# Altium footprint library XDCR_BMP390L.PcbLib: 1 footprints
Each footprint in its own frame and in the unit in brackets; x right, y up, seen from the top. Pads: shape width x height; smd on the part's side, far side on the other; paste and mask are expansions set on the pad; w line width, h text height; cw(c..) or ccw(c..) is an arc to the next point about the centre after c.
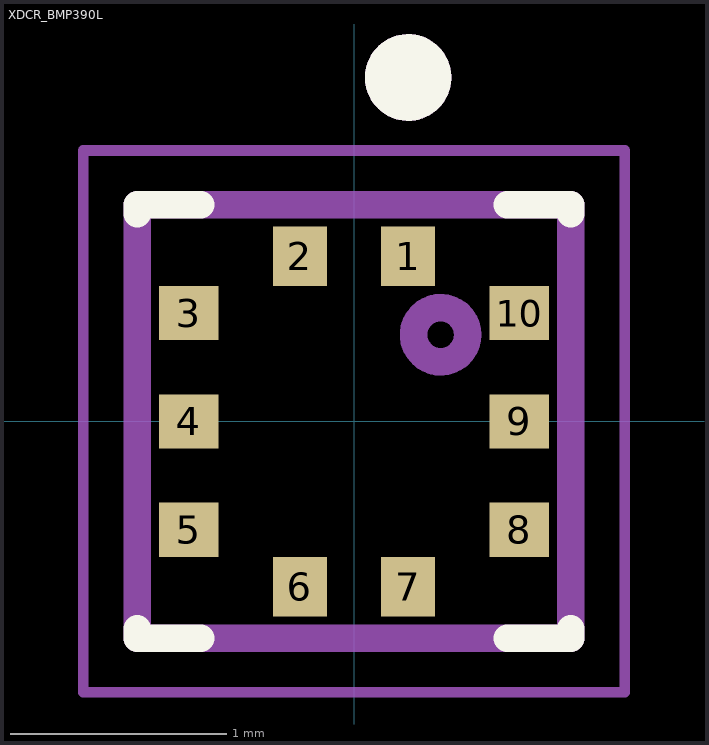
[diagram p0: the footprint, top view; thin cyan lines are the x and y axes]

## XDCR_BMP390L [mm]
height 0.8
pads (10):
  rect 0.25x0.275 smd: 1(0.25,0.763) 2(-0.25,0.763) 6(-0.25,-0.763) 7(0.25,-0.763)
  rect 0.275x0.25 smd: 3(-0.763,0.5) 4(-0.763,0) 5(-0.763,-0.5) 8(0.763,-0.5) 9(0.763,0) 10(0.763,0.5)
Top Overlay:
  circle w0.2: c0.25,1.587 r0.1
  lines w0.127: -1,-0.958 -1,-1 -0.707,-1 ; -1,0.958 -1,1 -0.707,1 ; 0.707,-1 1,-1 1,-0.958 ; 0.707,1 1,1 1,0.958
Mechanical 13:
  circle w0.2: c0.25,1.587 r0.1
  circle w0.127: c0.4,0.4 r0.125
  lines w0.127: -1,-1 1,-1 1,1 -1,1 -1,-1
Mechanical 15:
  lines w0.05: -1.25,-1.25 -1.25,1.25 1.25,1.25 1.25,-1.25 -1.25,-1.25
3D body "step_temp.STEP": height 0.8, standoff 0, extent -1,-1 1,1